# EAGLE library part LM386-1 (library BME_Components)
Low Voltage Audio Power Amplifier, 8-pin MDIP
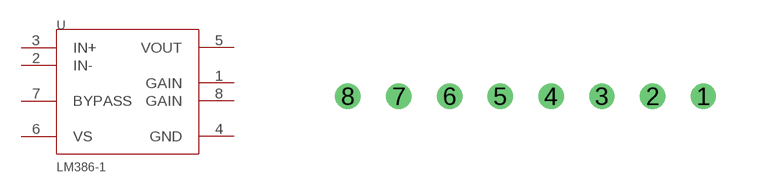
[diagram p9: symbol with the pads of LM386-1_N08E; footprint LM386-1_N08E]

Designator prefix U

## LM386-1LM386-1_LM386-1_N08E (CODE_JEDEC: MS-001-BA; COMPTYPE: Audio IC; DATASHEETVERSION: Aug-2000; MANUFACTURER: National Semiconductor; PACKAGEDESCRIPTION: MDIP, .365 x .250 x .130in, 8 Lead, .100in Pitch; PACKAGEREFERENCE: N08E; PACKAGETOPMARKING: NSUZXYTTE#*LM*386N-1; PACKAGEVERSION: revG, May-2006; PINCOUNT: 8; POWERWISE: N; ROHS: N)  [LM386-1_N08E]
1  GAIN  pas
2  IN-  in
3  IN+  in
4  GND  pwr
5  VOUT  out
6  VS  pwr
7  BYPASS  pas
8  GAIN  pas

## Footprint LM386-1_N08E (pad centres in mm)
drill 0.127 pad 0.254 round: 1 8.89,0; 2 7.62,0; 3 6.35,0; 4 5.08,0; 5 3.81,0; 6 2.54,0; 7 1.27,0; 8 0,0